# Altium schematic symbol library Schlib_Evalution_Boards.SchLib: 3 symbols
Pins are listed as number, name and electrical type; pins without a type are passive.

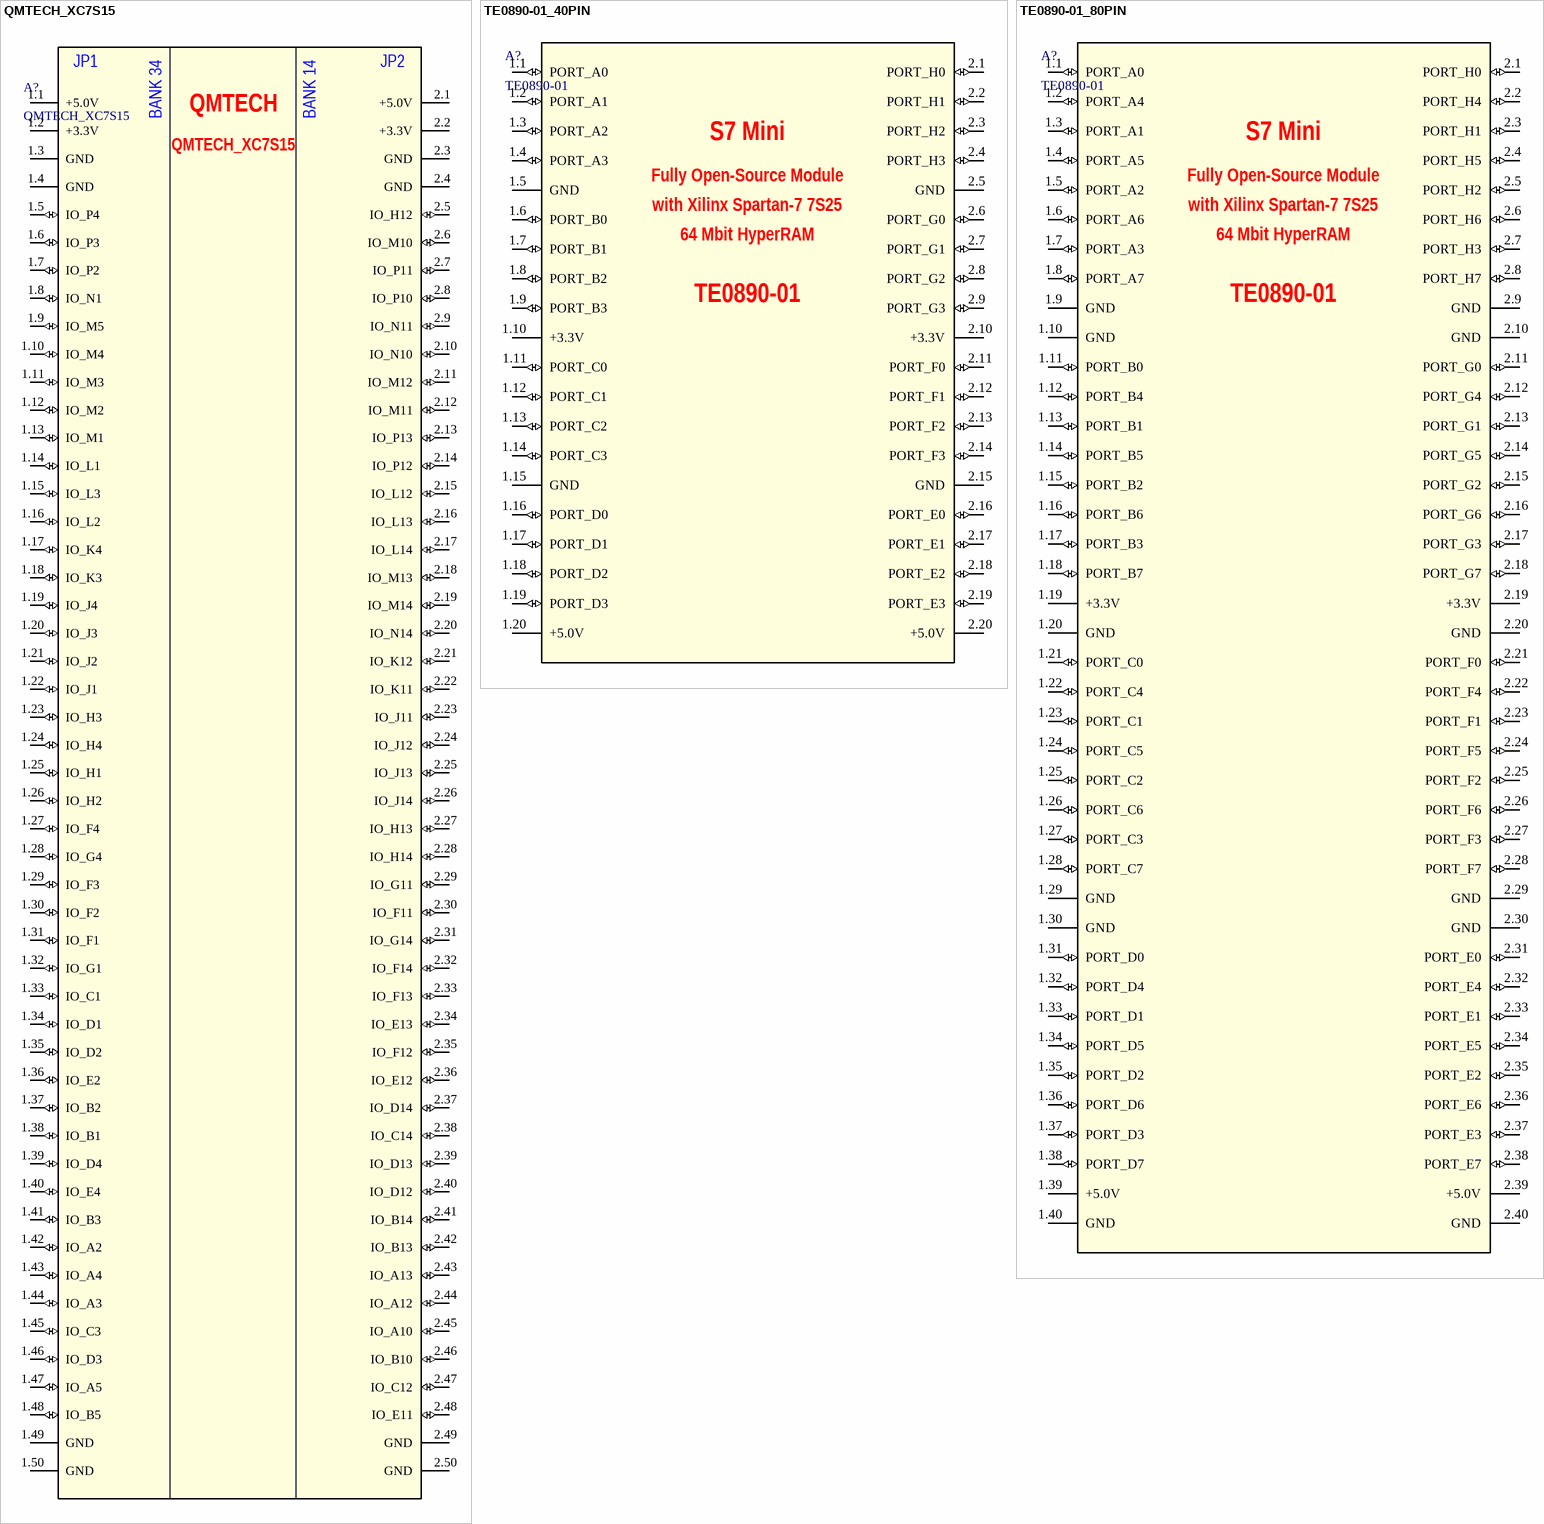
[diagram p0: symbols QMTECH_XC7S15 to TE0890-01_80PIN]

## QMTECH_XC7S15
designator A?
QMTECH_XC7S15 Module with Xilinx Spartan-7 XC7S15; Manufacturer: QMTECH; Part Nubmer: QMTECH_XC7S15
footprint QMTECH_XC7S15 (SPARTAN-7 EVAL BOARD)
footprint QMTECH_XC7S15_CONN_ONLY (SPARTAN-7 EVAL BOARD)
pins: 1.1 +5.0V (power), 1.2 +3.3V (power), 1.3 GND (power), 1.4 GND (power), 1.5 IO_P4 (io), 1.6 IO_P3 (io), 1.7 IO_P2 (io), 1.8 IO_N1 (io), 1.9 IO_M5 (io), 1.10 IO_M4 (io), 1.11 IO_M3 (io), 1.12 IO_M2 (io), 1.13 IO_M1 (io), 1.14 IO_L1 (io), 1.15 IO_L3 (io), 1.16 IO_L2 (io), 1.17 IO_K4 (io), 1.18 IO_K3 (io), 1.19 IO_J4 (io), 1.20 IO_J3 (io), 1.21 IO_J2 (io), 1.22 IO_J1 (io), 1.23 IO_H3 (io), 1.24 IO_H4 (io), 1.25 IO_H1 (io), 1.26 IO_H2 (io), 1.27 IO_F4 (io), 1.28 IO_G4 (io), 1.29 IO_F3 (io), 1.30 IO_F2 (io), 1.31 IO_F1 (io), 1.32 IO_G1 (io), 1.33 IO_C1 (io), 1.34 IO_D1 (io), 1.35 IO_D2 (io), 1.36 IO_E2 (io), 1.37 IO_B2 (io), 1.38 IO_B1 (io), 1.39 IO_D4 (io), 1.40 IO_E4 (io), 1.41 IO_B3 (io), 1.42 IO_A2 (io), 1.43 IO_A4 (io), 1.44 IO_A3 (io), 1.45 IO_C3 (io), 1.46 IO_D3 (io), 1.47 IO_A5 (io), 1.48 IO_B5 (io), 1.49 GND (power), 1.50 GND (power), 2.1 +5.0V (power), 2.2 +3.3V (power), 2.3 GND (power), 2.4 GND (power), 2.5 IO_H12 (io), 2.6 IO_M10 (io), 2.7 IO_P11 (io), 2.8 IO_P10 (io), 2.9 IO_N11 (io), 2.10 IO_N10 (io), 2.11 IO_M12 (io), 2.12 IO_M11 (io), 2.13 IO_P13 (io), 2.14 IO_P12 (io), 2.15 IO_L12 (io), 2.16 IO_L13 (io), 2.17 IO_L14 (io), 2.18 IO_M13 (io), 2.19 IO_M14 (io), 2.20 IO_N14 (io), 2.21 IO_K12 (io), 2.22 IO_K11 (io), 2.23 IO_J11 (io), 2.24 IO_J12 (io), 2.25 IO_J13 (io), 2.26 IO_J14 (io), 2.27 IO_H13 (io), 2.28 IO_H14 (io), 2.29 IO_G11 (io), 2.30 IO_F11 (io), 2.31 IO_G14 (io), 2.32 IO_F14 (io), 2.33 IO_F13 (io), 2.34 IO_E13 (io), 2.35 IO_F12 (io), 2.36 IO_E12 (io), 2.37 IO_D14 (io), 2.38 IO_C14 (io), 2.39 IO_D13 (io), 2.40 IO_D12 (io), 2.41 IO_B14 (io), 2.42 IO_B13 (io), 2.43 IO_A13 (io), 2.44 IO_A12 (io), 2.45 IO_A10 (io), 2.46 IO_B10 (io), 2.47 IO_C12 (io), 2.48 IO_E11 (io), 2.49 GND (power), 2.50 GND (power)
text: JP1; JP2; BANK 34; BANK 14

## TE0890-01_40PIN
designator A?, comment TE0890-01
SOM S7 Mini - Fully Open-Source Module with Xilinx Spartan-7 7S25 + 64 MBit HyperRAM; Manufacturer: Trenz Electronic; Part Nubmer: TE0890-01
footprint TE0890-01_PICH_2.54
footprint TE0890-01_PICH_2.54_CONN_ONLY
pins: 1.1 PORT_A0 (io), 1.2 PORT_A1 (io), 1.3 PORT_A2 (io), 1.4 PORT_A3 (io), 1.5 GND (power), 1.6 PORT_B0 (io), 1.7 PORT_B1 (io), 1.8 PORT_B2 (io), 1.9 PORT_B3 (io), 1.10 +3.3V (power), 1.11 PORT_C0 (io), 1.12 PORT_C1 (io), 1.13 PORT_C2 (io), 1.14 PORT_C3 (io), 1.15 GND (power), 1.16 PORT_D0 (io), 1.17 PORT_D1 (io), 1.18 PORT_D2 (io), 1.19 PORT_D3 (io), 1.20 +5.0V (power), 2.1 PORT_H0 (io), 2.2 PORT_H1 (io), 2.3 PORT_H2 (io), 2.4 PORT_H3 (io), 2.5 GND (power), 2.6 PORT_G0 (io), 2.7 PORT_G1 (io), 2.8 PORT_G2 (io), 2.9 PORT_G3 (io), 2.10 +3.3V (power), 2.11 PORT_F0 (io), 2.12 PORT_F1 (io), 2.13 PORT_F2 (io), 2.14 PORT_F3 (io), 2.15 GND (power), 2.16 PORT_E0 (io), 2.17 PORT_E1 (io), 2.18 PORT_E2 (io), 2.19 PORT_E3 (io), 2.20 +5.0V (power)
text: S7 Mini; Fully Open-Source Module; with Xilinx Spartan-7 7S25; 64 Mbit HyperRAM

## TE0890-01_80PIN
designator A?, comment TE0890-01
SOM S7 Mini - Fully Open-Source Module with Xilinx Spartan-7 7S25 + 64 MBit HyperRAM; Manufacturer: Trenz Electronic; Part Nubmer: TE0890-01
footprint TE0890-01_PICH_1.27
footprint TE0890-01_PICH_1.27_CONN_ONLY
pins: 1.1 PORT_A0 (io), 1.2 PORT_A4 (io), 1.3 PORT_A1 (io), 1.4 PORT_A5 (io), 1.5 PORT_A2 (io), 1.6 PORT_A6 (io), 1.7 PORT_A3 (io), 1.8 PORT_A7 (io), 1.9 GND (power), 1.10 GND (power), 1.11 PORT_B0 (io), 1.12 PORT_B4 (io), 1.13 PORT_B1 (io), 1.14 PORT_B5 (io), 1.15 PORT_B2 (io), 1.16 PORT_B6 (io), 1.17 PORT_B3 (io), 1.18 PORT_B7 (io), 1.19 +3.3V (power), 1.20 GND (power), 1.21 PORT_C0 (io), 1.22 PORT_C4 (io), 1.23 PORT_C1 (io), 1.24 PORT_C5 (io), 1.25 PORT_C2 (io), 1.26 PORT_C6 (io), 1.27 PORT_C3 (io), 1.28 PORT_C7 (io), 1.29 GND (power), 1.30 GND (power), 1.31 PORT_D0 (io), 1.32 PORT_D4 (io), 1.33 PORT_D1 (io), 1.34 PORT_D5 (io), 1.35 PORT_D2 (io), 1.36 PORT_D6 (io), 1.37 PORT_D3 (io), 1.38 PORT_D7 (io), 1.39 +5.0V (power), 1.40 GND (power), 2.1 PORT_H0 (io), 2.2 PORT_H4 (io), 2.3 PORT_H1 (io), 2.4 PORT_H5 (io), 2.5 PORT_H2 (io), 2.6 PORT_H6 (io), 2.7 PORT_H3 (io), 2.8 PORT_H7 (io), 2.9 GND (power), 2.10 GND (power), 2.11 PORT_G0 (io), 2.12 PORT_G4 (io), 2.13 PORT_G1 (io), 2.14 PORT_G5 (io), 2.15 PORT_G2 (io), 2.16 PORT_G6 (io), 2.17 PORT_G3 (io), 2.18 PORT_G7 (io), 2.19 +3.3V (power), 2.20 GND (power), 2.21 PORT_F0 (io), 2.22 PORT_F4 (io), 2.23 PORT_F1 (io), 2.24 PORT_F5 (io), 2.25 PORT_F2 (io), 2.26 PORT_F6 (io), 2.27 PORT_F3 (io), 2.28 PORT_F7 (io), 2.29 GND (power), 2.30 GND (power), 2.31 PORT_E0 (io), 2.32 PORT_E4 (io), 2.33 PORT_E1 (io), 2.34 PORT_E5 (io), 2.35 PORT_E2 (io), 2.36 PORT_E6 (io), 2.37 PORT_E3 (io), 2.38 PORT_E7 (io), 2.39 +5.0V (power), 2.40 GND (power)
text: S7 Mini; Fully Open-Source Module; with Xilinx Spartan-7 7S25; 64 Mbit HyperRAM